# Altium integrated library TI_Logic_Specialty_Logic.IntLib: 2504 symbols (part 3 of 81)
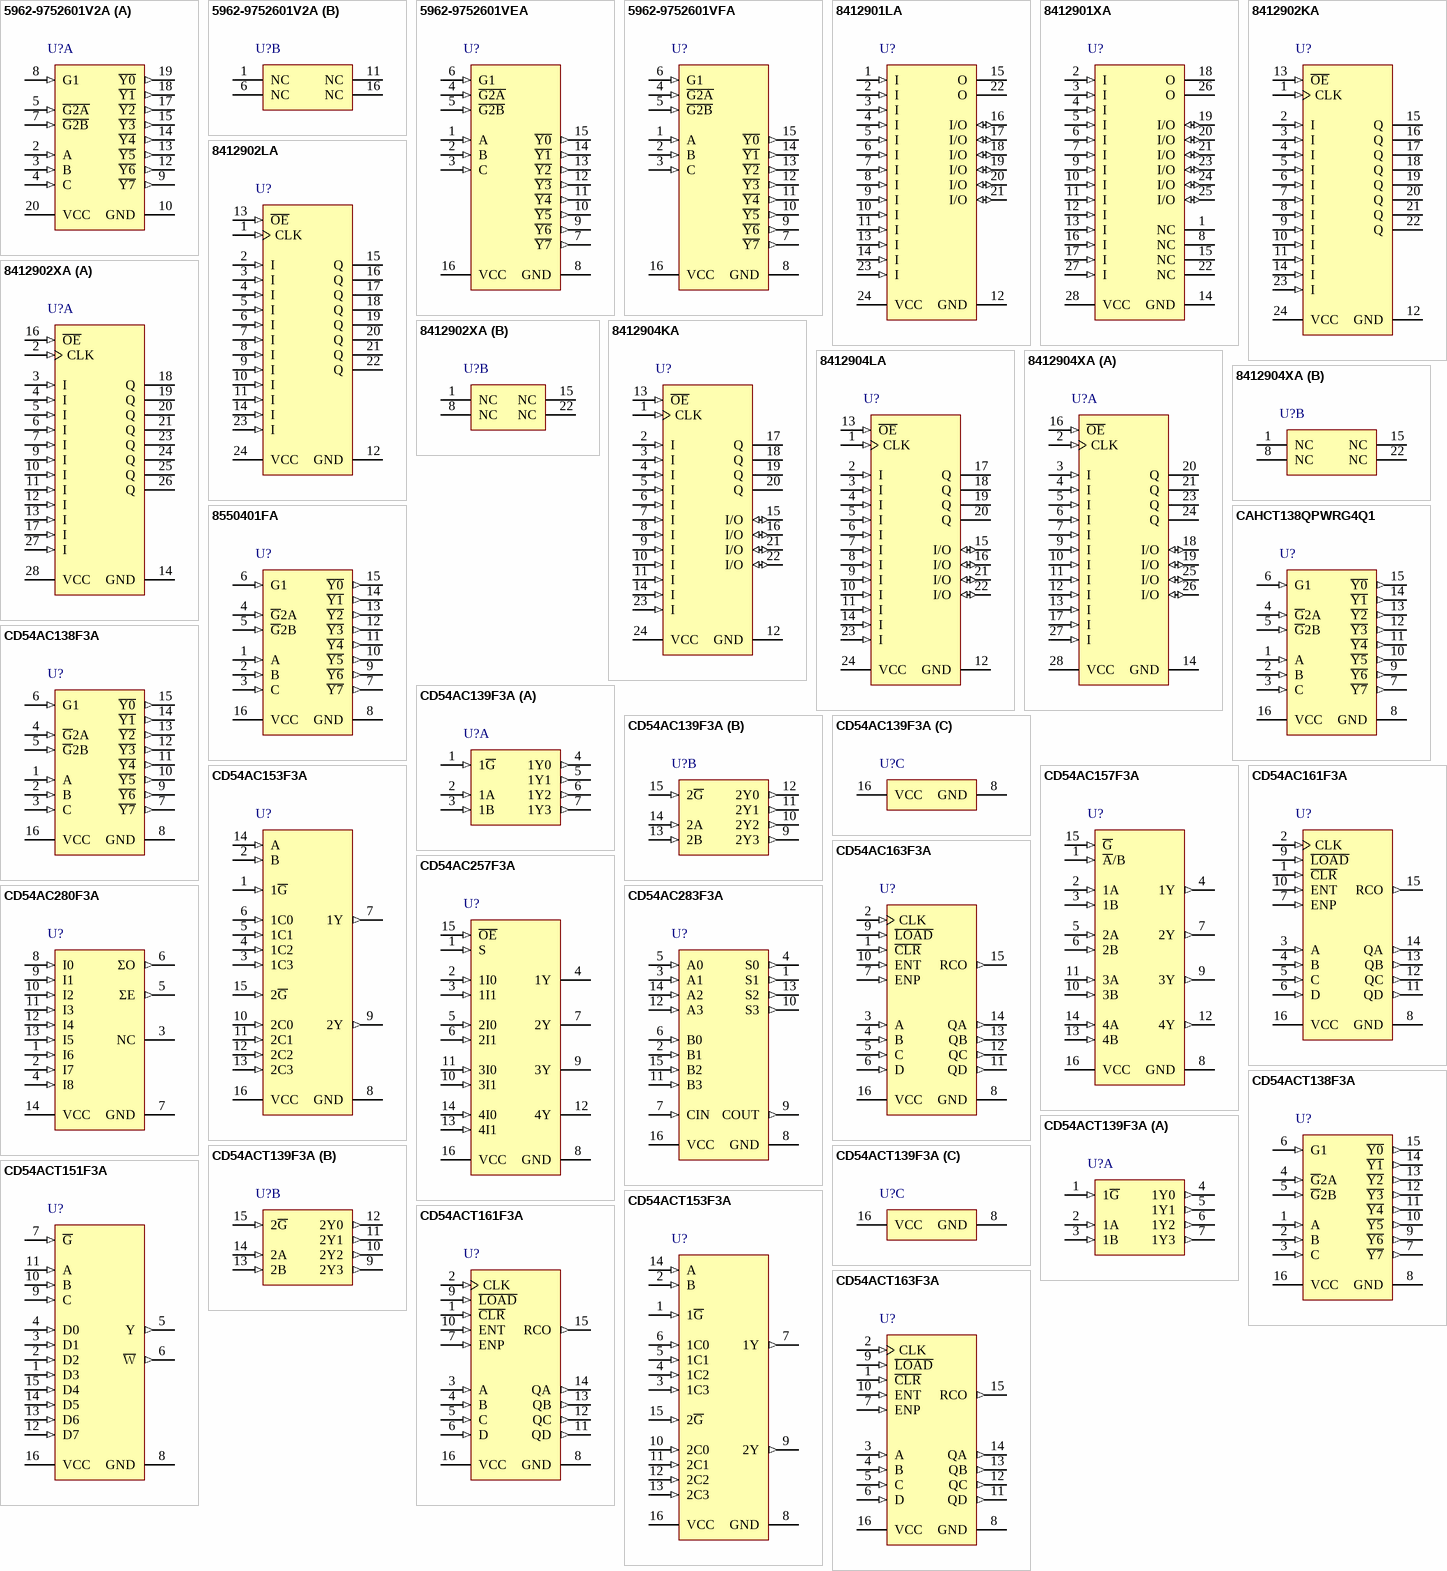
[diagram p106: symbols 5962-9752601V2A to CD54ACT163F3A]

## CD54AC153F3A
designator U?
Dual 4-Input Multiplexers, J0016A, TUBE; Generic Part Number: CD54AC153; Manufacturer: Texas Instruments; PartNumber: CD54AC153F3A; VCC(Min)(V): 1.5; VCC(Max)(V): 5.5; ICC @ Nom Voltage(Max)(mA): 0.08; F @ Nom Voltage(Max)(Mhz): 100; Rating: Military; Technology Family: AC; Voltage(Nom)(V): 1.5,3.3,5; Schmitt Trigger: No; Output Drive (IOL/IOH)(Max)(mA): 24/-24; tpd @ Nom Voltage(Max)(ns): 227,25.5,18.2; DatasheetVersion: SCHS334A; PackageReference: J0016A; Operating Temperature Range(C): -55 to 125; ComponentLink1Description: Manufacturer URL; ComponentLink1URL: http://www.ti.com/; ComponentLink2Description: Datasheet; ComponentLink2URL: http://www.ti.com/lit/ds/symlink/cd54ac153.pdf; ComponentLink3Description: Package Specification; ComponentLink3URL: http://www.ti.com/lit/ml/mcer002d/mcer002d.pdf
footprint J0016A (DIP, 16-Leads, Body 21.35x7.2mm, Pitch 2.54mm)
pins: 1 1~{G} (in), 2 B (in), 3 1C3 (in), 4 1C2 (in), 5 1C1 (in), 6 1C0 (in), 7 1Y (out), 8 GND (power), 9 2Y (out), 10 2C0 (in), 11 2C1 (in), 12 2C2 (in), 13 2C3 (in), 14 A (in), 15 2~{G} (in), 16 VCC (power)

## CD54AC157F3A
designator U?
Quad Non-Inverting 2-Input Multiplexers, J0016A, TUBE; Generic Part Number: CD54AC157; Manufacturer: Texas Instruments; PartNumber: CD54AC157F3A; VCC(Min)(V): 1.5; VCC(Max)(V): 5.5; ICC @ Nom Voltage(Max)(mA): 0.08; F @ Nom Voltage(Max)(Mhz): 100; Rating: Military; Technology Family: AC; Voltage(Nom)(V): 1.5,3.3,5; Schmitt Trigger: No; Output Drive (IOL/IOH)(Max)(mA): 24/-24; tpd @ Nom Voltage(Max)(ns): 97,10.8,7.7; DatasheetVersion: SCHS335; PackageReference: J0016A; Operating Temperature Range(C): -55 to 125; ComponentLink1Description: Manufacturer URL; ComponentLink1URL: http://www.ti.com/; ComponentLink2Description: Datasheet; ComponentLink2URL: http://www.ti.com/lit/ds/symlink/cd54ac157.pdf; ComponentLink3Description: Package Specification; ComponentLink3URL: http://www.ti.com/lit/ml/mcer002d/mcer002d.pdf
footprint J0016A (DIP, 16-Leads, Body 21.35x7.2mm, Pitch 2.54mm)
pins: 1 ~{A}/B (in), 2 1A (in), 3 1B (in), 4 1Y (out), 5 2A (in), 6 2B (in), 7 2Y (out), 8 GND (power), 9 3Y (out), 10 3B (in), 11 3A (in), 12 4Y (out), 13 4B (in), 14 4A (in), 15 ~{G} (in), 16 VCC (power)

## CD54AC161F3A
designator U?
Synchronous Presettable Binary Counters with Asynchronous Reset, J0016A, TUBE; Generic Part Number: CD54AC161; Manufacturer: Texas Instruments; PartNumber: CD54AC161F3A; VCC(Min)(V): 1.5; VCC(Max)(V): 5.5; Inputs: 4; ICC @ Nom Voltage(Max)(mA): 0.08; F @ Nom Voltage(Max)(Mhz): 100; Rating: Military; Technology Family: AC; Output Drive (IOL/IOH)(Max)(mA): 24/-24; tpd @ Nom Voltage(Max)(ns): 15; DatasheetVersion: SCHS239C; PackageReference: J0016A; Function: Counter; Bits(#): 4; Operating Temperature Range(C): -55 to 125; Type: Binary; ComponentLink1Description: Manufacturer URL; ComponentLink1URL: http://www.ti.com/; ComponentLink2Description: Datasheet; ComponentLink2URL: http://www.ti.com/lit/ds/symlink/cd54ac161.pdf; ComponentLink3Description: Package Specification; ComponentLink3URL: http://www.ti.com/lit/ml/mcer002d/mcer002d.pdf
footprint J0016A (DIP, 16-Leads, Body 21.35x7.2mm, Pitch 2.54mm)
pins: 1 ~{CLR} (in), 2 CLK (in), 3 A (in), 4 B (in), 5 C (in), 6 D (in), 7 ENP (in), 8 GND (power), 9 ~{LOAD} (in), 10 ENT (in), 11 QD (out), 12 QC (out), 13 QB (out), 14 QA (out), 15 RCO (out), 16 VCC (power)

## CD54AC163F3A
designator U?
Synchronous Presettable Binary Counters with Synchronous Reset, J0016A, TUBE; Generic Part Number: CD54AC163; Manufacturer: Texas Instruments; PartNumber: CD54AC163F3A; VCC(Min)(V): 1.5; VCC(Max)(V): 5.5; Inputs: 4; ICC @ Nom Voltage(Max)(mA): 0.08; F @ Nom Voltage(Max)(Mhz): 100; Rating: Military; Technology Family: AC; Output Drive (IOL/IOH)(Max)(mA): 24/-24; tpd @ Nom Voltage(Max)(ns): 15; DatasheetVersion: SCHS299B; PackageReference: J0016A; Function: Counter; Bits(#): 4; Operating Temperature Range(C): -55 to 125; Type: Binary; ComponentLink1Description: Manufacturer URL; ComponentLink1URL: http://www.ti.com/; ComponentLink2Description: Datasheet; ComponentLink2URL: http://www.ti.com/lit/ds/symlink/cd54ac163.pdf; ComponentLink3Description: Package Specification; ComponentLink3URL: http://www.ti.com/lit/ml/mcer002d/mcer002d.pdf
footprint J0016A (DIP, 16-Leads, Body 21.35x7.2mm, Pitch 2.54mm)
pins: 1 ~{CLR} (in), 2 CLK (in), 3 A (in), 4 B (in), 5 C (in), 6 D (in), 7 ENP (in), 8 GND (power), 9 ~{LOAD} (in), 10 ENT (in), 11 QD (out), 12 QC (out), 13 QB (out), 14 QA (out), 15 RCO (out), 16 VCC (power)

## CD54AC257F3A
designator U?
Quad Non-Inverting 2-Input Multiplexers with 3-State Outputs, J0016A, TUBE; Generic Part Number: CD54AC257; Manufacturer: Texas Instruments; PartNumber: CD54AC257F3A; VCC(Min)(V): 1.5; VCC(Max)(V): 5.5; ICC @ Nom Voltage(Max)(mA): 0.08; F @ Nom Voltage(Max)(Mhz): 100; Rating: Military; Technology Family: AC; Voltage(Nom)(V): 1.5,3.3,5; Schmitt Trigger: No; Output Drive (IOL/IOH)(Max)(mA): 24/-24; tpd @ Nom Voltage(Max)(ns): 106,11.8,8.5; DatasheetVersion: SCHS248A; PackageReference: J0016A; Operating Temperature Range(C): -55 to 125; ComponentLink1Description: Manufacturer URL; ComponentLink1URL: http://www.ti.com/; ComponentLink2Description: Datasheet; ComponentLink2URL: http://www.ti.com/lit/ds/symlink/cd54ac257.pdf; ComponentLink3Description: Package Specification; ComponentLink3URL: http://www.ti.com/lit/ml/mcer002d/mcer002d.pdf
footprint J0016A (DIP, 16-Leads, Body 21.35x7.2mm, Pitch 2.54mm)
pins: 1 S (in), 2 1I0 (in), 3 1I1 (in), 4 1Y (hiz), 5 2I0 (in), 6 2I1 (in), 7 2Y (hiz), 8 GND (power), 9 3Y (hiz), 10 3I1 (in), 11 3I0 (in), 12 4Y (hiz), 13 4I1 (in), 14 4I0 (in), 15 ~{OE} (in), 16 VCC (power)

## CD54AC280F3A
designator U?
9-Bit Odd/Even Parity Generator/Checker, J0014A, TUBE; Generic Part Number: CD54AC280; Manufacturer: Texas Instruments; PartNumber: CD54AC280F3A; Rating: Military; Technology Family: AC; DatasheetVersion: SCHS250A; PackageReference: J0014A; Operating Temperature Range(C): -55 to 125; ComponentLink1Description: Manufacturer URL; ComponentLink1URL: http://www.ti.com/; ComponentLink2Description: Datasheet; ComponentLink2URL: http://www.ti.com/lit/ds/symlink/cd54ac280.pdf; ComponentLink3Description: Package Specification; ComponentLink3URL: http://www.ti.com/lit/ml/mcer002d/mcer002d.pdf
footprint J0014A (DIP, 14-Leads, Body 19.95x7.2mm, Pitch 2.54mm)
pins: 1 I6 (in), 2 I7 (in), 3 NC, 4 I8 (in), 5 ΣE (out), 6 ΣO (out), 7 GND (power), 8 I0 (in), 9 I1 (in), 10 I2 (in), 11 I3 (in), 12 I4 (in), 13 I5 (in), 14 VCC (power)

## CD54AC283F3A
designator U?
4-Bit Binary Full Adder with Fast Carry, J0016A, TUBE; Generic Part Number: CD54AC283; Manufacturer: Texas Instruments; PartNumber: CD54AC283F3A; Rating: Military; Technology Family: AC; DatasheetVersion: SCHS251D; PackageReference: J0016A; Operating Temperature Range(C): -55 to 125; ComponentLink1Description: Manufacturer URL; ComponentLink1URL: http://www.ti.com/; ComponentLink2Description: Datasheet; ComponentLink2URL: http://www.ti.com/lit/ds/symlink/cd54ac283.pdf; ComponentLink3Description: Package Specification; ComponentLink3URL: http://www.ti.com/lit/ml/mcer002d/mcer002d.pdf
footprint J0016A (DIP, 16-Leads, Body 21.35x7.2mm, Pitch 2.54mm)
pins: 1 S1 (out), 2 B1 (in), 3 A1 (in), 4 S0 (out), 5 A0 (in), 6 B0 (in), 7 CIN (in), 8 GND (power), 9 COUT (out), 10 S3 (out), 11 B3 (in), 12 A3 (in), 13 S2 (out), 14 A2 (in), 15 B2 (in), 16 VCC (power)

## CD54ACT138F3A
designator U?
3-Line to 8-Line Inverting Decoders/Demultiplexers, J0016A, TUBE; Generic Part Number: CD54ACT138; Manufacturer: Texas Instruments; PartNumber: CD54ACT138F3A; Rating: Military; Technology Family: ACT; Schmitt Trigger: No; DatasheetVersion: SCHS329A; PackageReference: J0016A; Operating Temperature Range(C): -55 to 125; ComponentLink1Description: Manufacturer URL; ComponentLink1URL: http://www.ti.com/; ComponentLink2Description: Datasheet; ComponentLink2URL: http://www.ti.com/lit/ds/symlink/cd54act138.pdf; ComponentLink3Description: Package Specification; ComponentLink3URL: http://www.ti.com/lit/ml/mcer002d/mcer002d.pdf
footprint J0016A (DIP, 16-Leads, Body 21.35x7.2mm, Pitch 2.54mm)
pins: 1 A (in), 2 B (in), 3 C (in), 4 ~{G}2A (in), 5 ~{G}2B (in), 6 G1 (in), 7 ~{Y7} (out), 8 GND (power), 9 ~{Y6} (out), 10 ~{Y5} (out), 11 ~{Y4} (out), 12 ~{Y3} (out), 13 ~{Y2} (out), 14 ~{Y1} (out), 15 ~{Y0} (out), 16 VCC (power)

## CD54ACT139F3A
designator U?
Dual 2-to-4 Line Decoder/Demultiplexer, J0016A, TUBE; Generic Part Number: CD54ACT139; Manufacturer: Texas Instruments; PartNumber: CD54ACT139F3A; Rating: Military; Technology Family: ACT; Schmitt Trigger: No; DatasheetVersion: SCHS337; PackageReference: J0016A; Operating Temperature Range(C): -55 to 125; ComponentLink1Description: Manufacturer URL; ComponentLink1URL: http://www.ti.com/; ComponentLink2Description: Datasheet; ComponentLink2URL: http://www.ti.com/lit/ds/symlink/cd54act139.pdf; ComponentLink3Description: Package Specification; ComponentLink3URL: http://www.ti.com/lit/ml/mcer002d/mcer002d.pdf
footprint J0016A (DIP, 16-Leads, Body 21.35x7.2mm, Pitch 2.54mm)
part A pins: 1 1~{G} (in), 2 1A (in), 3 1B (in), 4 1Y0 (out), 5 1Y1 (out), 6 1Y2 (out), 7 1Y3 (out)
part B pins: 9 2Y3 (out), 10 2Y2 (out), 11 2Y1 (out), 12 2Y0 (out), 13 2B (in), 14 2A (in), 15 2~{G} (in)
part C pins: 8 GND (power), 16 VCC (power)

## CD54ACT151F3A
designator U?
8-Input Multiplexer, J0016A, TUBE; Generic Part Number: CD54ACT151; Manufacturer: Texas Instruments; PartNumber: CD54ACT151F3A; Rating: Military; Technology Family: ACT; Schmitt Trigger: No; DatasheetVersion: SCHS338; PackageReference: J0016A; Operating Temperature Range(C): -55 to 125; ComponentLink1Description: Manufacturer URL; ComponentLink1URL: http://www.ti.com/; ComponentLink2Description: Datasheet; ComponentLink2URL: http://www.ti.com/lit/ds/symlink/cd54act151.pdf; ComponentLink3Description: Package Specification; ComponentLink3URL: http://www.ti.com/lit/ml/mcer002d/mcer002d.pdf
footprint J0016A (DIP, 16-Leads, Body 21.35x7.2mm, Pitch 2.54mm)
pins: 1 D3 (in), 2 D2 (in), 3 D1 (in), 4 D0 (in), 5 Y (out), 6 ~{W} (out), 7 ~{G} (in), 8 GND (power), 9 C (in), 10 B (in), 11 A (in), 12 D7 (in), 13 D6 (in), 14 D5 (in), 15 D4 (in), 16 VCC (power)

## CD54ACT153F3A
designator U?
Dual 4-Input Multiplexers, J0016A, TUBE; Generic Part Number: CD54ACT153; Manufacturer: Texas Instruments; PartNumber: CD54ACT153F3A; Rating: Military; Technology Family: ACT; Schmitt Trigger: No; DatasheetVersion: SCHS339; PackageReference: J0016A; Operating Temperature Range(C): -55 to 125; ComponentLink1Description: Manufacturer URL; ComponentLink1URL: http://www.ti.com/; ComponentLink2Description: Datasheet; ComponentLink2URL: http://www.ti.com/lit/ds/symlink/cd54act153.pdf; ComponentLink3Description: Package Specification; ComponentLink3URL: http://www.ti.com/lit/ml/mcer002d/mcer002d.pdf
footprint J0016A (DIP, 16-Leads, Body 21.35x7.2mm, Pitch 2.54mm)
pins: 1 1~{G} (in), 2 B (in), 3 1C3 (in), 4 1C2 (in), 5 1C1 (in), 6 1C0 (in), 7 1Y (out), 8 GND (power), 9 2Y (out), 10 2C0 (in), 11 2C1 (in), 12 2C2 (in), 13 2C3 (in), 14 A (in), 15 2~{G} (in), 16 VCC (power)

## CD54ACT161F3A
designator U?
Synchronous Presettable Binary Counters with Asynchronous Reset, J0016A, TUBE; Generic Part Number: CD54ACT161; Manufacturer: Texas Instruments; PartNumber: CD54ACT161F3A; VCC(Min)(V): 4.5; VCC(Max)(V): 5.5; Inputs: 4; ICC @ Nom Voltage(Max)(mA): 0.08; F @ Nom Voltage(Max)(Mhz): 90; Rating: Military; Technology Family: ACT; Output Drive (IOL/IOH)(Max)(mA): 24/-24; tpd @ Nom Voltage(Max)(ns): 15; DatasheetVersion: SCHS298B; PackageReference: J0016A; Function: Counter; Bits(#): 4; Operating Temperature Range(C): -55 to 125; Type: Binary; ComponentLink1Description: Manufacturer URL; ComponentLink1URL: http://www.ti.com/; ComponentLink2Description: Datasheet; ComponentLink2URL: http://www.ti.com/lit/ds/symlink/cd54act161.pdf; ComponentLink3Description: Package Specification; ComponentLink3URL: http://www.ti.com/lit/ml/mcer002d/mcer002d.pdf
footprint J0016A (DIP, 16-Leads, Body 21.35x7.2mm, Pitch 2.54mm)
pins: 1 ~{CLR} (in), 2 CLK (in), 3 A (in), 4 B (in), 5 C (in), 6 D (in), 7 ENP (in), 8 GND (power), 9 ~{LOAD} (in), 10 ENT (in), 11 QD (out), 12 QC (out), 13 QB (out), 14 QA (out), 15 RCO (out), 16 VCC (power)

## CD54ACT163F3A
designator U?
Synchronous Presettable Binary Counters with Synchronous Reset, J0016A, TUBE; Generic Part Number: CD54ACT163; Manufacturer: Texas Instruments; PartNumber: CD54ACT163F3A; VCC(Min)(V): 4.5; VCC(Max)(V): 5.5; Inputs: 4; ICC @ Nom Voltage(Max)(mA): 0.08; F @ Nom Voltage(Max)(Mhz): 90; Rating: Military; Technology Family: ACT; Output Drive (IOL/IOH)(Max)(mA): 24/-24; tpd @ Nom Voltage(Max)(ns): 15; DatasheetVersion: SCHS300B; PackageReference: J0016A; Function: Counter; Bits(#): 4; Operating Temperature Range(C): -55 to 125; Type: Binary; ComponentLink1Description: Manufacturer URL; ComponentLink1URL: http://www.ti.com/; ComponentLink2Description: Datasheet; ComponentLink2URL: http://www.ti.com/lit/ds/symlink/cd54act163.pdf; ComponentLink3Description: Package Specification; ComponentLink3URL: http://www.ti.com/lit/ml/mcer002d/mcer002d.pdf
footprint J0016A (DIP, 16-Leads, Body 21.35x7.2mm, Pitch 2.54mm)
pins: 1 ~{CLR} (in), 2 CLK (in), 3 A (in), 4 B (in), 5 C (in), 6 D (in), 7 ENP (in), 8 GND (power), 9 ~{LOAD} (in), 10 ENT (in), 11 QD (out), 12 QC (out), 13 QB (out), 14 QA (out), 15 RCO (out), 16 VCC (power)

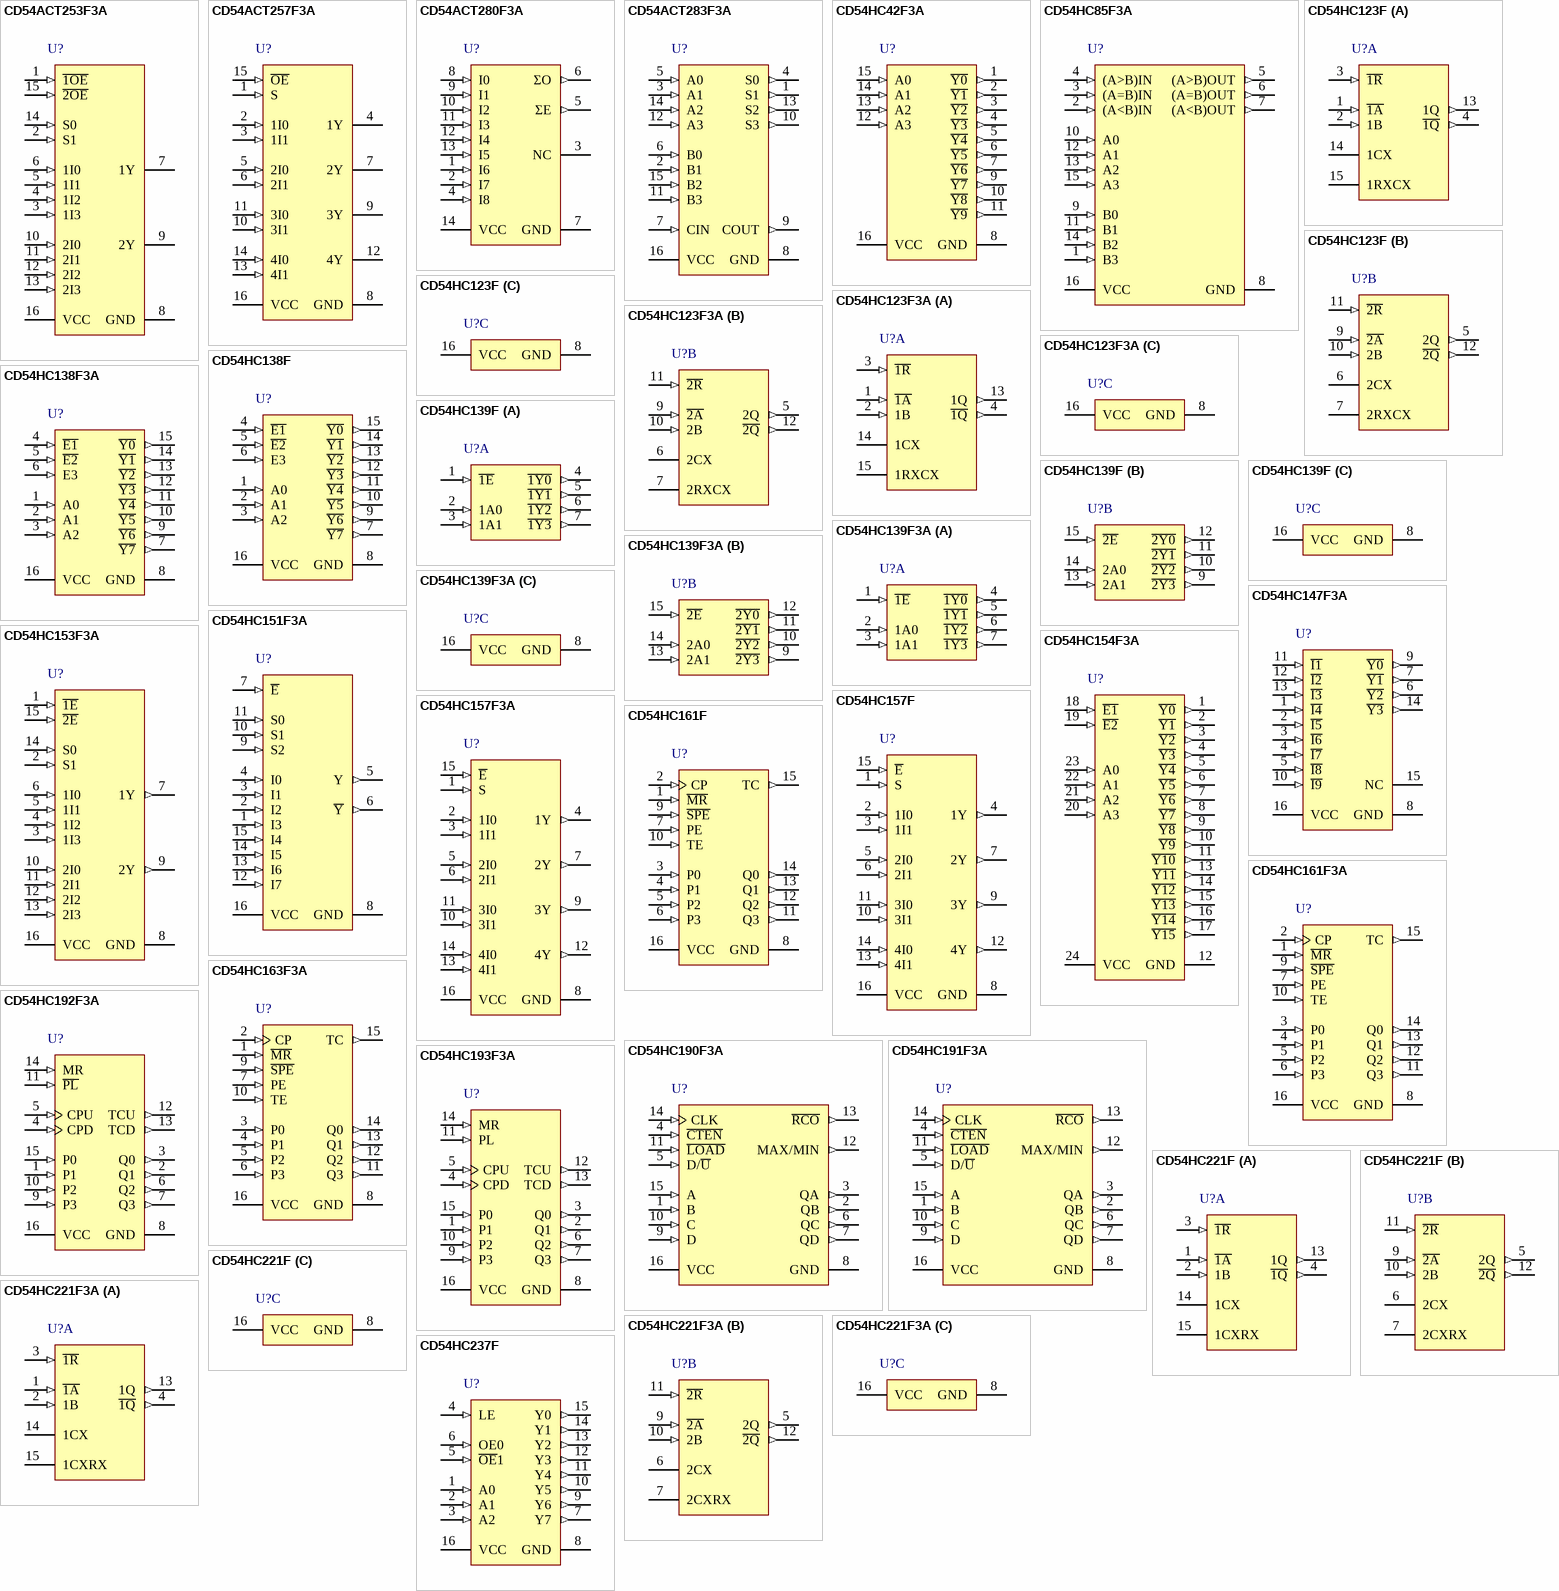
[diagram p3: symbols CD54ACT253F3A to CD54HC237F]

## CD54ACT253F3A
designator U?
Dual 4-Input Multiplexers with 3-State Outputs, J0016A, TUBE; Generic Part Number: CD54ACT253; Manufacturer: Texas Instruments; PartNumber: CD54ACT253F3A; Rating: Military; Technology Family: ACT; Schmitt Trigger: No; DatasheetVersion: SCHS247A; PackageReference: J0016A; Operating Temperature Range(C): -55 to 125; ComponentLink1Description: Manufacturer URL; ComponentLink1URL: http://www.ti.com/; ComponentLink2Description: Datasheet; ComponentLink2URL: http://www.ti.com/lit/ds/symlink/cd54act253.pdf; ComponentLink3Description: Package Specification; ComponentLink3URL: http://www.ti.com/lit/ml/mcer002d/mcer002d.pdf
footprint J0016A (DIP, 16-Leads, Body 21.35x7.2mm, Pitch 2.54mm)
pins: 1 ~{1OE} (in), 2 S1 (in), 3 1I3 (in), 4 1I2 (in), 5 1I1 (in), 6 1I0 (in), 7 1Y (hiz), 8 GND (power), 9 2Y (hiz), 10 2I0 (in), 11 2I1 (in), 12 2I2 (in), 13 2I3 (in), 14 S0 (in), 15 ~{2OE} (in), 16 VCC (power)

## CD54ACT257F3A
designator U?
Quad Non-Inverting 2-Input Multiplexers with 3-State Outputs, J0016A, TUBE; Generic Part Number: CD54ACT257; Manufacturer: Texas Instruments; PartNumber: CD54ACT257F3A; Rating: Military; Technology Family: ACT; Schmitt Trigger: No; DatasheetVersion: SCHS248A; PackageReference: J0016A; Operating Temperature Range(C): -55 to 125; ComponentLink1Description: Manufacturer URL; ComponentLink1URL: http://www.ti.com/; ComponentLink2Description: Datasheet; ComponentLink2URL: http://www.ti.com/lit/ds/symlink/cd54act257.pdf; ComponentLink3Description: Package Specification; ComponentLink3URL: http://www.ti.com/lit/ml/mcer002d/mcer002d.pdf
footprint J0016A (DIP, 16-Leads, Body 21.35x7.2mm, Pitch 2.54mm)
pins: 1 S (in), 2 1I0 (in), 3 1I1 (in), 4 1Y (hiz), 5 2I0 (in), 6 2I1 (in), 7 2Y (hiz), 8 GND (power), 9 3Y (hiz), 10 3I1 (in), 11 3I0 (in), 12 4Y (hiz), 13 4I1 (in), 14 4I0 (in), 15 ~{OE} (in), 16 VCC (power)

## CD54ACT280F3A
designator U?
9-Bit Odd/Even Parity Generator/Checker, J0014A, TUBE; Generic Part Number: CD54ACT280; Manufacturer: Texas Instruments; PartNumber: CD54ACT280F3A; Rating: Military; Technology Family: ACT; DatasheetVersion: SCHS250A; PackageReference: J0014A; Operating Temperature Range(C): -55 to 125; ComponentLink1Description: Manufacturer URL; ComponentLink1URL: http://www.ti.com/; ComponentLink2Description: Datasheet; ComponentLink2URL: http://www.ti.com/lit/ds/symlink/cd54act280.pdf; ComponentLink3Description: Package Specification; ComponentLink3URL: http://www.ti.com/lit/ml/mcer002d/mcer002d.pdf
footprint J0014A (DIP, 14-Leads, Body 19.95x7.2mm, Pitch 2.54mm)
pins: 1 I6 (in), 2 I7 (in), 3 NC, 4 I8 (in), 5 ΣE (out), 6 ΣO (out), 7 GND (power), 8 I0 (in), 9 I1 (in), 10 I2 (in), 11 I3 (in), 12 I4 (in), 13 I5 (in), 14 VCC (power)

## CD54ACT283F3A
designator U?
4-Bit Binary Full Adder with Fast Carry, J0016A, TUBE; Generic Part Number: CD54ACT283; Manufacturer: Texas Instruments; PartNumber: CD54ACT283F3A; Rating: Military; Technology Family: ACT; DatasheetVersion: SCHS251D; PackageReference: J0016A; Operating Temperature Range(C): -55 to 125; ComponentLink1Description: Manufacturer URL; ComponentLink1URL: http://www.ti.com/; ComponentLink2Description: Datasheet; ComponentLink2URL: http://www.ti.com/lit/ds/symlink/cd54act283.pdf; ComponentLink3Description: Package Specification; ComponentLink3URL: http://www.ti.com/lit/ml/mcer002d/mcer002d.pdf
footprint J0016A (DIP, 16-Leads, Body 21.35x7.2mm, Pitch 2.54mm)
pins: 1 S1 (out), 2 B1 (in), 3 A1 (in), 4 S0 (out), 5 A0 (in), 6 B0 (in), 7 CIN (in), 8 GND (power), 9 COUT (out), 10 S3 (out), 11 B3 (in), 12 A3 (in), 13 S2 (out), 14 A2 (in), 15 B2 (in), 16 VCC (power)

## CD54HC42F3A
designator U?
High Speed CMOS Logic BCD to Decimal Decoder (1 of 10), J0016A, TUBE; Generic Part Number: CD54HC42; Manufacturer: Texas Instruments; PartNumber: CD54HC42F3A; Rating: Military; Technology Family: HC; Schmitt Trigger: No; DatasheetVersion: SCHS133C; PackageReference: J0016A; Operating Temperature Range(C): -55 to 125; ComponentLink1Description: Manufacturer URL; ComponentLink1URL: http://www.ti.com/; ComponentLink2Description: Datasheet; ComponentLink2URL: http://www.ti.com/lit/ds/symlink/cd54hc42.pdf; ComponentLink3Description: Package Specification; ComponentLink3URL: http://www.ti.com/lit/ml/mcer002d/mcer002d.pdf
footprint J0016A (DIP, 16-Leads, Body 21.35x7.2mm, Pitch 2.54mm)
pins: 1 ~{Y0} (out), 2 ~{Y1} (out), 3 ~{Y2} (out), 4 ~{Y3} (out), 5 ~{Y4} (out), 6 ~{Y5} (out), 7 ~{Y6} (out), 8 GND (power), 9 ~{Y7} (out), 10 ~{Y8} (out), 11 ~{Y9} (out), 12 A3 (in), 13 A2 (in), 14 A1 (in), 15 A0 (in), 16 VCC (power)

## CD54HC85F3A
designator U?
4-Bit Magnitude Comparator, J0016A, TUBE; Generic Part Number: CD54HC85; Manufacturer: Texas Instruments; PartNumber: CD54HC85F3A; VCC(Min)(V): 2; VCC(Max)(V): 6; Output Type: CMOS; ICC @ Nom Voltage(Max)(mA): 0.08; Bits(#): 4; Rating: Military; Technology Family: HC; Output Drive (IOL/IOH)(Max)(mA): 5.2/-5.2; tpd @ Nom Voltage(Max)(ns): 42; DatasheetVersion: SCHS136E; PackageReference: J0016A; Input Type: CMOS; Operating Temperature Range(C): -55 to 125; ComponentLink1Description: Manufacturer URL; ComponentLink1URL: http://www.ti.com/; ComponentLink2Description: Datasheet; ComponentLink2URL: http://www.ti.com/lit/ds/symlink/cd54hc85.pdf
footprint J0016A (DIP, 16-Leads, Body 21.35x7.2mm, Pitch 2.54mm)
pins: 1 B3 (in), 2 (A<B)IN (in), 3 (A=B)IN (in), 4 (A>B)IN (in), 5 (A>B)OUT (out), 6 (A=B)OUT (out), 7 (A<B)OUT (out), 8 GND (power), 9 B0 (in), 10 A0 (in), 11 B1 (in), 12 A1 (in), 13 A2 (in), 14 B2 (in), 15 A3 (in), 16 VCC (power)

## CD54HC123F
designator U?
High Speed CMOS Logic Dual Retriggerable Monostable Multivibrators with Resets, J0016A, TUBE; Generic Part Number: CD54HC123; Manufacturer: Texas Instruments; PartNumber: CD54HC123F; VCC(Min)(V): 2; VCC(Max)(V): 6; ICC @ Nom Voltage(Max)(mA): 0.08; Rating: Military; Technology Family: HC; Output Drive (IOL/IOH)(Max)(mA): 5.2/-5.2; tpd @ Nom Voltage(Max)(ns): 68; DatasheetVersion: SCHS142F; PackageReference: J0016A; Output Type: CMOS; Input Type: CMOS; Bits(#): 2; Operating Temperature Range(C): -55 to 125; ComponentLink1Description: Manufacturer URL; ComponentLink1URL: http://www.ti.com/; ComponentLink2Description: Datasheet; ComponentLink2URL: http://www.ti.com/lit/ds/symlink/cd54hc123.pdf; ComponentLink3Description: Package Specification; ComponentLink3URL: http://www.ti.com/lit/ml/mcer002d/mcer002d.pdf
footprint J0016A (DIP, 16-Leads, Body 21.35x7.2mm, Pitch 2.54mm)
part A pins: 1 ~{1A} (in), 2 1B (in), 3 ~{1R} (in), 4 ~{1Q} (out), 13 1Q (out), 14 1CX, 15 1RXCX
part B pins: 5 2Q (out), 6 2CX, 7 2RXCX, 9 ~{2A} (in), 10 2B (in), 11 ~{2R} (in), 12 ~{2Q} (out)
part C pins: 8 GND (power), 16 VCC (power)

## CD54HC123F3A
designator U?
High Speed CMOS Logic Dual Retriggerable Monostable Multivibrators with Resets, J0016A, TUBE; Generic Part Number: CD54HC123; Manufacturer: Texas Instruments; PartNumber: CD54HC123F3A; VCC(Min)(V): 2; VCC(Max)(V): 6; ICC @ Nom Voltage(Max)(mA): 0.08; Rating: Military; Technology Family: HC; Output Drive (IOL/IOH)(Max)(mA): 5.2/-5.2; tpd @ Nom Voltage(Max)(ns): 68; DatasheetVersion: SCHS142F; PackageReference: J0016A; Output Type: CMOS; Input Type: CMOS; Bits(#): 2; Operating Temperature Range(C): -55 to 125; ComponentLink1Description: Manufacturer URL; ComponentLink1URL: http://www.ti.com/; ComponentLink2Description: Datasheet; ComponentLink2URL: http://www.ti.com/lit/ds/symlink/cd54hc123.pdf; ComponentLink3Description: Package Specification; ComponentLink3URL: http://www.ti.com/lit/ml/mcer002d/mcer002d.pdf
footprint J0016A (DIP, 16-Leads, Body 21.35x7.2mm, Pitch 2.54mm)
part A pins: 1 ~{1A} (in), 2 1B (in), 3 ~{1R} (in), 4 ~{1Q} (out), 13 1Q (out), 14 1CX, 15 1RXCX
part B pins: 5 2Q (out), 6 2CX, 7 2RXCX, 9 ~{2A} (in), 10 2B (in), 11 ~{2R} (in), 12 ~{2Q} (out)
part C pins: 8 GND (power), 16 VCC (power)

## CD54HC138F
designator U?
High Speed CMOS Logic Inverting and Non-Inverting 3-to-8 Line Decoder Demultiplexer, J0016A, TUBE; Generic Part Number: CD54HC138; Manufacturer: Texas Instruments; PartNumber: CD54HC138F; Rating: Military; Technology Family: HC; Schmitt Trigger: No; DatasheetVersion: SCHS147I; PackageReference: J0016A; Operating Temperature Range(C): -55 to 125; ComponentLink1Description: Manufacturer URL; ComponentLink1URL: http://www.ti.com/; ComponentLink2Description: Datasheet; ComponentLink2URL: http://www.ti.com/lit/ds/symlink/cd54hc138.pdf; ComponentLink3Description: Package Specification; ComponentLink3URL: http://www.ti.com/lit/ml/mcer002d/mcer002d.pdf
footprint J0016A (DIP, 16-Leads, Body 21.35x7.2mm, Pitch 2.54mm)
pins: 1 A0 (in), 2 A1 (in), 3 A2 (in), 4 ~{E1} (in), 5 ~{E2} (in), 6 E3 (in), 7 ~{Y7} (out), 8 GND (power), 9 ~{Y6} (out), 10 ~{Y5} (out), 11 ~{Y4} (out), 12 ~{Y3} (out), 13 ~{Y2} (out), 14 ~{Y1} (out), 15 ~{Y0} (out), 16 VCC (power)

## CD54HC138F3A
designator U?
High Speed CMOS Logic Inverting and Non-Inverting 3-to-8 Line Decoder Demultiplexer, J0016A, TUBE; Generic Part Number: CD54HC138; Manufacturer: Texas Instruments; PartNumber: CD54HC138F3A; Rating: Military; Technology Family: HC; Schmitt Trigger: No; DatasheetVersion: SCHS147I; PackageReference: J0016A; Operating Temperature Range(C): -55 to 125; ComponentLink1Description: Manufacturer URL; ComponentLink1URL: http://www.ti.com/; ComponentLink2Description: Datasheet; ComponentLink2URL: http://www.ti.com/lit/ds/symlink/cd54hc138.pdf; ComponentLink3Description: Package Specification; ComponentLink3URL: http://www.ti.com/lit/ml/mcer002d/mcer002d.pdf
footprint J0016A (DIP, 16-Leads, Body 21.35x7.2mm, Pitch 2.54mm)
pins: 1 A0 (in), 2 A1 (in), 3 A2 (in), 4 ~{E1} (in), 5 ~{E2} (in), 6 E3 (in), 7 ~{Y7} (out), 8 GND (power), 9 ~{Y6} (out), 10 ~{Y5} (out), 11 ~{Y4} (out), 12 ~{Y3} (out), 13 ~{Y2} (out), 14 ~{Y1} (out), 15 ~{Y0} (out), 16 VCC (power)

## CD54HC139F
designator U?
High Speed CMOS Logic Dual 2-to-4 Line Decoder/Demultiplexers, J0016A, TUBE; Generic Part Number: CD54HC139; Manufacturer: Texas Instruments; PartNumber: CD54HC139F; Rating: Military; Technology Family: HC; Schmitt Trigger: No; DatasheetVersion: SCHS148D; PackageReference: J0016A; Operating Temperature Range(C): -55 to 125; ComponentLink1Description: Manufacturer URL; ComponentLink1URL: http://www.ti.com/; ComponentLink2Description: Datasheet; ComponentLink2URL: http://www.ti.com/lit/ds/symlink/cd54hc139.pdf; ComponentLink3Description: Package Specification; ComponentLink3URL: http://www.ti.com/lit/ml/mcer002d/mcer002d.pdf
footprint J0016A (DIP, 16-Leads, Body 21.35x7.2mm, Pitch 2.54mm)
part A pins: 1 ~{1E} (in), 2 1A0 (in), 3 1A1 (in), 4 ~{1Y0} (out), 5 ~{1Y1} (out), 6 ~{1Y2} (out), 7 ~{1Y3} (out)
part B pins: 9 ~{2Y3} (out), 10 ~{2Y2} (out), 11 ~{2Y1} (out), 12 ~{2Y0} (out), 13 2A1 (in), 14 2A0 (in), 15 ~{2E} (in)
part C pins: 8 GND (power), 16 VCC (power)

## CD54HC139F3A
designator U?
High Speed CMOS Logic Dual 2-to-4 Line Decoder/Demultiplexers, J0016A, TUBE; Generic Part Number: CD54HC139; Manufacturer: Texas Instruments; PartNumber: CD54HC139F3A; Rating: Military; Technology Family: HC; Schmitt Trigger: No; DatasheetVersion: SCHS148D; PackageReference: J0016A; Operating Temperature Range(C): -55 to 125; ComponentLink1Description: Manufacturer URL; ComponentLink1URL: http://www.ti.com/; ComponentLink2Description: Datasheet; ComponentLink2URL: http://www.ti.com/lit/ds/symlink/cd54hc139.pdf; ComponentLink3Description: Package Specification; ComponentLink3URL: http://www.ti.com/lit/ml/mcer002d/mcer002d.pdf
footprint J0016A (DIP, 16-Leads, Body 21.35x7.2mm, Pitch 2.54mm)
part A pins: 1 ~{1E} (in), 2 1A0 (in), 3 1A1 (in), 4 ~{1Y0} (out), 5 ~{1Y1} (out), 6 ~{1Y2} (out), 7 ~{1Y3} (out)
part B pins: 9 ~{2Y3} (out), 10 ~{2Y2} (out), 11 ~{2Y1} (out), 12 ~{2Y0} (out), 13 2A1 (in), 14 2A0 (in), 15 ~{2E} (in)
part C pins: 8 GND (power), 16 VCC (power)

## CD54HC147F3A
designator U?
High Speed CMOS Logic 10-to-4 Line Priority Encoder, J0016A, TUBE; Generic Part Number: CD54HC147; Manufacturer: Texas Instruments; PartNumber: CD54HC147F3A; Rating: Military; Technology Family: HC; Schmitt Trigger: No; DatasheetVersion: SCHS149F; PackageReference: J0016A; Operating Temperature Range(C): -55 to 125; ComponentLink1Description: Manufacturer URL; ComponentLink1URL: http://www.ti.com/; ComponentLink2Description: Datasheet; ComponentLink2URL: http://www.ti.com/lit/ds/symlink/cd54hc147.pdf; ComponentLink3Description: Package Specification; ComponentLink3URL: http://www.ti.com/lit/ml/mcer002d/mcer002d.pdf
footprint J0016A (DIP, 16-Leads, Body 21.35x7.2mm, Pitch 2.54mm)
pins: 1 ~{I4} (in), 2 ~{I5} (in), 3 ~{I6} (in), 4 ~{I7} (in), 5 ~{I8} (in), 6 ~{Y2} (out), 7 ~{Y1} (out), 8 GND (power), 9 ~{Y0} (out), 10 ~{I9} (in), 11 ~{I1} (in), 12 ~{I2} (in), 13 ~{I3} (in), 14 ~{Y3} (out), 15 NC, 16 VCC (power)

## CD54HC151F3A
designator U?
CMOS 8-Input NOR/OR Gate, J0016A, TUBE; Generic Part Number: CD54HC151; Manufacturer: Texas Instruments; PartNumber: CD54HC151F3A; Rating: Military; Technology Family: HC; Schmitt Trigger: No; DatasheetVersion: SCHS150C; PackageReference: J0016A; Operating Temperature Range(C): -55 to 125; ComponentLink1Description: Manufacturer URL; ComponentLink1URL: http://www.ti.com/; ComponentLink2Description: Datasheet; ComponentLink2URL: http://www.ti.com/lit/ds/symlink/cd54hc151.pdf; ComponentLink3Description: Package Specification; ComponentLink3URL: http://www.ti.com/lit/ml/mcer002d/mcer002d.pdf
footprint J0016A (DIP, 16-Leads, Body 21.35x7.2mm, Pitch 2.54mm)
pins: 1 I3 (in), 2 I2 (in), 3 I1 (in), 4 I0 (in), 5 Y (out), 6 ~{Y} (out), 7 ~{E} (in), 8 GND (power), 9 S2 (in), 10 S1 (in), 11 S0 (in), 12 I7 (in), 13 I6 (in), 14 I5 (in), 15 I4 (in), 16 VCC (power)

## CD54HC153F3A
designator U?
High Speed CMOS Logic Dual 4-Input Multiplexers, J0016A, TUBE; Generic Part Number: CD54HC153; Manufacturer: Texas Instruments; PartNumber: CD54HC153F3A; Rating: Military; Technology Family: HC; Schmitt Trigger: No; DatasheetVersion: SCHS151C; PackageReference: J0016A; Operating Temperature Range(C): -55 to 125; ComponentLink1Description: Manufacturer URL; ComponentLink1URL: http://www.ti.com/; ComponentLink2Description: Datasheet; ComponentLink2URL: http://www.ti.com/lit/ds/symlink/cd54hc153.pdf; ComponentLink3Description: Package Specification; ComponentLink3URL: http://www.ti.com/lit/ml/mcer002d/mcer002d.pdf
footprint J0016A (DIP, 16-Leads, Body 21.35x7.2mm, Pitch 2.54mm)
pins: 1 ~{1E} (in), 2 S1 (in), 3 1I3 (in), 4 1I2 (in), 5 1I1 (in), 6 1I0 (in), 7 1Y (out), 8 GND (power), 9 2Y (out), 10 2I0 (in), 11 2I1 (in), 12 2I2 (in), 13 2I3 (in), 14 S0 (in), 15 ~{2E} (in), 16 VCC (power)

## CD54HC154F3A
designator U?
High Speed CMOS Logic 4-to-16 Line Decoder/Demultiplexer, J0024A, TUBE; Generic Part Number: CD54HC154; Manufacturer: Texas Instruments; PartNumber: CD54HC154F3A; Rating: Military; Technology Family: HC; Schmitt Trigger: No; DatasheetVersion: SCHS152D; PackageReference: J0024A; Operating Temperature Range(C): -55 to 125; ComponentLink1Description: Manufacturer URL; ComponentLink1URL: http://www.ti.com/; ComponentLink2Description: Datasheet; ComponentLink2URL: http://www.ti.com/lit/ds/symlink/cd54hc154.pdf; ComponentLink3Description: Package Specification; ComponentLink3URL: http://www.ti.com/lit/ml/mcer002d/mcer002d.pdf
footprint J0024A (DIP, 24-Leads, Body 32.15x14.85mm, Pitch 2.54mm)
pins: 1 ~{Y0} (out), 2 ~{Y1} (out), 3 ~{Y2} (out), 4 ~{Y3} (out), 5 ~{Y4} (out), 6 ~{Y5} (out), 7 ~{Y6} (out), 8 ~{Y7} (out), 9 ~{Y8} (out), 10 ~{Y9} (out), 11 ~{Y10} (out), 12 GND (power), 13 ~{Y11} (out), 14 ~{Y12} (out), 15 ~{Y13} (out), 16 ~{Y14} (out), 17 ~{Y15} (out), 18 ~{E1} (in), 19 ~{E2} (in), 20 A3 (in), 21 A2 (in), 22 A1 (in), 23 A0 (in), 24 VCC (power)

## CD54HC157F
designator U?
High Speed CMOS Logic Quad 2-Input Multiplexers, J0016A, TUBE; Generic Part Number: CD54HC157; Manufacturer: Texas Instruments; PartNumber: CD54HC157F; Rating: Military; Technology Family: HC; Schmitt Trigger: No; DatasheetVersion: SCHS153C; PackageReference: J0016A; Operating Temperature Range(C): -55 to 125; ComponentLink1Description: Manufacturer URL; ComponentLink1URL: http://www.ti.com/; ComponentLink2Description: Datasheet; ComponentLink2URL: http://www.ti.com/lit/ds/symlink/cd54hc157.pdf; ComponentLink3Description: Package Specification; ComponentLink3URL: http://www.ti.com/lit/ml/mcer002d/mcer002d.pdf
footprint J0016A (DIP, 16-Leads, Body 21.35x7.2mm, Pitch 2.54mm)
pins: 1 S (in), 2 1I0 (in), 3 1I1 (in), 4 1Y (out), 5 2I0 (in), 6 2I1 (in), 7 2Y (out), 8 GND (power), 9 3Y (out), 10 3I1 (in), 11 3I0 (in), 12 4Y (out), 13 4I1 (in), 14 4I0 (in), 15 ~{E} (in), 16 VCC (power)

## CD54HC157F3A
designator U?
High Speed CMOS Logic Quad 2-Input Multiplexers, J0016A, TUBE; Generic Part Number: CD54HC157; Manufacturer: Texas Instruments; PartNumber: CD54HC157F3A; Rating: Military; Technology Family: HC; Schmitt Trigger: No; DatasheetVersion: SCHS153C; PackageReference: J0016A; Operating Temperature Range(C): -55 to 125; ComponentLink1Description: Manufacturer URL; ComponentLink1URL: http://www.ti.com/; ComponentLink2Description: Datasheet; ComponentLink2URL: http://www.ti.com/lit/ds/symlink/cd54hc157.pdf; ComponentLink3Description: Package Specification; ComponentLink3URL: http://www.ti.com/lit/ml/mcer002d/mcer002d.pdf
footprint J0016A (DIP, 16-Leads, Body 21.35x7.2mm, Pitch 2.54mm)
pins: 1 S (in), 2 1I0 (in), 3 1I1 (in), 4 1Y (out), 5 2I0 (in), 6 2I1 (in), 7 2Y (out), 8 GND (power), 9 3Y (out), 10 3I1 (in), 11 3I0 (in), 12 4Y (out), 13 4I1 (in), 14 4I0 (in), 15 ~{E} (in), 16 VCC (power)

## CD54HC161F
designator U?
High Speed CMOS Logic 4-Bit Binary Counter with Asynchronous Reset, J0016A, TUBE; Generic Part Number: CD54HC161; Manufacturer: Texas Instruments; PartNumber: CD54HC161F; VCC(Min)(V): 2; VCC(Max)(V): 6; Inputs: 4; ICC @ Nom Voltage(Max)(mA): 0.08; F @ Nom Voltage(Max)(Mhz): 28; Rating: Military; Technology Family: HC; Output Drive (IOL/IOH)(Max)(mA): 5.2/-5.2; tpd @ Nom Voltage(Max)(ns): 39; DatasheetVersion: SCHS154D; PackageReference: J0016A; Function: Counter; Bits(#): 4; Operating Temperature Range(C): -55 to 125; Type: Binary; ComponentLink1Description: Manufacturer URL; ComponentLink1URL: http://www.ti.com/; ComponentLink2Description: Datasheet; ComponentLink2URL: http://www.ti.com/lit/ds/symlink/cd54hc161.pdf; ComponentLink3Description: Package Specification; ComponentLink3URL: http://www.ti.com/lit/ml/mcer002d/mcer002d.pdf
footprint J0016A (DIP, 16-Leads, Body 21.35x7.2mm, Pitch 2.54mm)
pins: 1 ~{MR} (in), 2 CP (in), 3 P0 (in), 4 P1 (in), 5 P2 (in), 6 P3 (in), 7 PE (in), 8 GND (power), 9 ~{SPE} (in), 10 TE (in), 11 Q3 (out), 12 Q2 (out), 13 Q1 (out), 14 Q0 (out), 15 TC (out), 16 VCC (power)

## CD54HC161F3A
designator U?
High Speed CMOS Logic 4-Bit Binary Counter with Asynchronous Reset, J0016A, TUBE; Generic Part Number: CD54HC161; Manufacturer: Texas Instruments; PartNumber: CD54HC161F3A; VCC(Min)(V): 2; VCC(Max)(V): 6; Inputs: 4; ICC @ Nom Voltage(Max)(mA): 0.08; F @ Nom Voltage(Max)(Mhz): 28; Rating: Military; Technology Family: HC; Output Drive (IOL/IOH)(Max)(mA): 5.2/-5.2; tpd @ Nom Voltage(Max)(ns): 39; DatasheetVersion: SCHS154D; PackageReference: J0016A; Function: Counter; Bits(#): 4; Operating Temperature Range(C): -55 to 125; Type: Binary; ComponentLink1Description: Manufacturer URL; ComponentLink1URL: http://www.ti.com/; ComponentLink2Description: Datasheet; ComponentLink2URL: http://www.ti.com/lit/ds/symlink/cd54hc161.pdf; ComponentLink3Description: Package Specification; ComponentLink3URL: http://www.ti.com/lit/ml/mcer002d/mcer002d.pdf
footprint J0016A (DIP, 16-Leads, Body 21.35x7.2mm, Pitch 2.54mm)
pins: 1 ~{MR} (in), 2 CP (in), 3 P0 (in), 4 P1 (in), 5 P2 (in), 6 P3 (in), 7 PE (in), 8 GND (power), 9 ~{SPE} (in), 10 TE (in), 11 Q3 (out), 12 Q2 (out), 13 Q1 (out), 14 Q0 (out), 15 TC (out), 16 VCC (power)

## CD54HC163F3A
designator U?
High Speed CMOS Logic 4-Bit Binary Counter with Synchronous Reset, J0016A, TUBE; Generic Part Number: CD54HC163; Manufacturer: Texas Instruments; PartNumber: CD54HC163F3A; VCC(Min)(V): 2; VCC(Max)(V): 6; Inputs: 4; ICC @ Nom Voltage(Max)(mA): 0.08; F @ Nom Voltage(Max)(Mhz): 28; Rating: Military; Technology Family: HC; Output Drive (IOL/IOH)(Max)(mA): 5.2/-5.2; tpd @ Nom Voltage(Max)(ns): 39; DatasheetVersion: SCHS154D; PackageReference: J0016A; Function: Counter; Bits(#): 4; Operating Temperature Range(C): -55 to 125; Type: Binary; ComponentLink1Description: Manufacturer URL; ComponentLink1URL: http://www.ti.com/; ComponentLink2Description: Datasheet; ComponentLink2URL: http://www.ti.com/lit/ds/symlink/cd54hc163.pdf; ComponentLink3Description: Package Specification; ComponentLink3URL: http://www.ti.com/lit/ml/mcer002d/mcer002d.pdf
footprint J0016A (DIP, 16-Leads, Body 21.35x7.2mm, Pitch 2.54mm)
pins: 1 ~{MR} (in), 2 CP (in), 3 P0 (in), 4 P1 (in), 5 P2 (in), 6 P3 (in), 7 PE (in), 8 GND (power), 9 ~{SPE} (in), 10 TE (in), 11 Q3 (out), 12 Q2 (out), 13 Q1 (out), 14 Q0 (out), 15 TC (out), 16 VCC (power)

## CD54HC190F3A
designator U?
High Speed CMOS Logic Presettable Synchronous 4-Bit BCD Decade Up/Down Counter, J0016A, TUBE; Generic Part Number: CD54HC190; Manufacturer: Texas Instruments; PartNumber: CD54HC190F3A; VCC(Min)(V): 2; VCC(Max)(V): 6; Inputs: 4; ICC @ Nom Voltage(Max)(mA): 0.08; F @ Nom Voltage(Max)(Mhz): 28; Rating: Military; Technology Family: HC; Output Drive (IOL/IOH)(Max)(mA): 5.2/-5.2; tpd @ Nom Voltage(Max)(ns): 37; DatasheetVersion: SCHS275E; PackageReference: J0016A; Function: Counter; Bits(#): 4; Operating Temperature Range(C): -55 to 125; Type: Decade; ComponentLink1Description: Manufacturer URL; ComponentLink1URL: http://www.ti.com/; ComponentLink2Description: Datasheet; ComponentLink2URL: http://www.ti.com/lit/ds/symlink/cd54hc190.pdf; ComponentLink3Description: Package Specification; ComponentLink3URL: http://www.ti.com/lit/ml/mcer002d/mcer002d.pdf
footprint J0016A (DIP, 16-Leads, Body 21.35x7.2mm, Pitch 2.54mm)
pins: 1 B (in), 2 QB (out), 3 QA (out), 4 ~{CTEN} (in), 5 D/~{U} (in), 6 QC (out), 7 QD (out), 8 GND (power), 9 D (in), 10 C (in), 11 ~{LOAD} (in), 12 MAX/MIN (out), 13 ~{RCO} (out), 14 CLK (in), 15 A (in), 16 VCC (power)

## CD54HC191F3A
designator U?
High Speed CMOS Logic Presettable Synchronous 4-Bit Binary Up/Down Counter, J0016A, TUBE; Generic Part Number: CD54HC191; Manufacturer: Texas Instruments; PartNumber: CD54HC191F3A; VCC(Min)(V): 2; VCC(Max)(V): 6; Inputs: 4; ICC @ Nom Voltage(Max)(mA): 0.08; F @ Nom Voltage(Max)(Mhz): 28; Rating: Military; Technology Family: HC; Output Drive (IOL/IOH)(Max)(mA): 5.2/-5.2; tpd @ Nom Voltage(Max)(ns): 37; DatasheetVersion: SCHS275E; PackageReference: J0016A; Function: Counter; Bits(#): 4; Operating Temperature Range(C): -55 to 125; Type: Binary; ComponentLink1Description: Manufacturer URL; ComponentLink1URL: http://www.ti.com/; ComponentLink2Description: Datasheet; ComponentLink2URL: http://www.ti.com/lit/ds/symlink/cd54hc191.pdf; ComponentLink3Description: Package Specification; ComponentLink3URL: http://www.ti.com/lit/ml/mcer002d/mcer002d.pdf
footprint J0016A (DIP, 16-Leads, Body 21.35x7.2mm, Pitch 2.54mm)
pins: 1 B (in), 2 QB (out), 3 QA (out), 4 ~{CTEN} (in), 5 D/~{U} (in), 6 QC (out), 7 QD (out), 8 GND (power), 9 D (in), 10 C (in), 11 ~{LOAD} (in), 12 MAX/MIN (out), 13 ~{RCO} (out), 14 CLK (in), 15 A (in), 16 VCC (power)

## CD54HC192F3A
designator U?
High Speed CMOS Logic Presettable Synchronous 4-Bit BCD Decade Up/Down Counters, J0016A, TUBE; Generic Part Number: CD54HC192; Manufacturer: Texas Instruments; PartNumber: CD54HC192F3A; VCC(Min)(V): 2; VCC(Max)(V): 6; Inputs: 1; ICC @ Nom Voltage(Max)(mA): 0.08; Bits(#): 4; F @ Nom Voltage(Max)(Mhz): 28; Rating: Military; Technology Family: HC; Output Drive (IOL/IOH)(Max)(mA): 5.2/-5.2; tpd @ Nom Voltage(Max)(ns): 46; DatasheetVersion: SCHS163F; PackageReference: J0016A; Function: Counter; Operating Temperature Range(C): -55 to 125; Type: Decade; ComponentLink1Description: Manufacturer URL; ComponentLink1URL: http://www.ti.com/; ComponentLink2Description: Datasheet; ComponentLink2URL: http://www.ti.com/lit/ds/symlink/cd54hc192.pdf; ComponentLink3Description: Package Specification; ComponentLink3URL: http://www.ti.com/lit/ml/mcer002d/mcer002d.pdf
footprint J0016A (DIP, 16-Leads, Body 21.35x7.2mm, Pitch 2.54mm)
pins: 1 P1 (in), 2 Q1 (out), 3 Q0 (out), 4 CPD (in), 5 CPU (in), 6 Q2 (out), 7 Q3 (out), 8 GND (power), 9 P3 (in), 10 P2 (in), 11 ~{PL} (in), 12 TCU (out), 13 TCD (out), 14 MR (in), 15 P0 (in), 16 VCC (power)

## CD54HC193F3A
designator U?
High Speed CMOS Logic Presettable Synchronous 4-Bit Binary Up/Down Counters, J0016A, TUBE; Generic Part Number: CD54HC193; Manufacturer: Texas Instruments; PartNumber: CD54HC193F3A; VCC(Min)(V): 2; VCC(Max)(V): 6; Inputs: 1; ICC @ Nom Voltage(Max)(mA): 0.08; Bits(#): 4; F @ Nom Voltage(Max)(Mhz): 28; Rating: Military; Technology Family: HC; Output Drive (IOL/IOH)(Max)(mA): 5.2/-5.2; tpd @ Nom Voltage(Max)(ns): 46; DatasheetVersion: SCHS163F; PackageReference: J0016A; Function: Counter; Operating Temperature Range(C): -55 to 125; Type: Binary; ComponentLink1Description: Manufacturer URL; ComponentLink1URL: http://www.ti.com/; ComponentLink2Description: Datasheet; ComponentLink2URL: http://www.ti.com/lit/ds/symlink/cd54hc193.pdf; ComponentLink3Description: Package Specification; ComponentLink3URL: http://www.ti.com/lit/ml/mcer002d/mcer002d.pdf
footprint J0016A (DIP, 16-Leads, Body 21.35x7.2mm, Pitch 2.54mm)
pins: 1 P1 (in), 2 Q1 (out), 3 Q0 (out), 4 CPD (in), 5 CPU (in), 6 Q2 (out), 7 Q3 (out), 8 GND (power), 9 P3 (in), 10 P2 (in), 11 PL (in), 12 TCU (out), 13 TCD (out), 14 MR (in), 15 P0 (in), 16 VCC (power)

## CD54HC221F
designator U?
High Speec CMOS Logic Dual Monostable Multivibrator with Reset, J0016A, TUBE; Generic Part Number: CD54HC221; Manufacturer: Texas Instruments; PartNumber: CD54HC221F; VCC(Min)(V): 2; VCC(Max)(V): 6; ICC @ Nom Voltage(Max)(mA): 0.08; Rating: Military; Technology Family: HC; Output Drive (IOL/IOH)(Max)(mA): 5.2/-5.2; tpd @ Nom Voltage(Max)(ns): 45; DatasheetVersion: SCHS166F; PackageReference: J0016A; Output Type: CMOS; Input Type: CMOS; Bits(#): 2; Operating Temperature Range(C): -55 to 125; ComponentLink1Description: Manufacturer URL; ComponentLink1URL: http://www.ti.com/; ComponentLink2Description: Datasheet; ComponentLink2URL: http://www.ti.com/lit/ds/symlink/cd54hc221.pdf; ComponentLink3Description: Package Specification; ComponentLink3URL: http://www.ti.com/lit/ml/mcer002d/mcer002d.pdf
footprint J0016A (DIP, 16-Leads, Body 21.35x7.2mm, Pitch 2.54mm)
part A pins: 1 ~{1A} (in), 2 1B (in), 3 ~{1R} (in), 4 ~{1Q} (out), 13 1Q (out), 14 1CX, 15 1CXRX
part B pins: 5 2Q (out), 6 2CX, 7 2CXRX, 9 ~{2A} (in), 10 2B (in), 11 ~{2R} (in), 12 ~{2Q} (out)
part C pins: 8 GND (power), 16 VCC (power)

## CD54HC221F3A
designator U?
High Speec CMOS Logic Dual Monostable Multivibrator with Reset, J0016A, TUBE; Generic Part Number: CD54HC221; Manufacturer: Texas Instruments; PartNumber: CD54HC221F3A; VCC(Min)(V): 2; VCC(Max)(V): 6; ICC @ Nom Voltage(Max)(mA): 0.08; Rating: Military; Technology Family: HC; Output Drive (IOL/IOH)(Max)(mA): 5.2/-5.2; tpd @ Nom Voltage(Max)(ns): 45; DatasheetVersion: SCHS166F; PackageReference: J0016A; Output Type: CMOS; Input Type: CMOS; Bits(#): 2; Operating Temperature Range(C): -55 to 125; ComponentLink1Description: Manufacturer URL; ComponentLink1URL: http://www.ti.com/; ComponentLink2Description: Datasheet; ComponentLink2URL: http://www.ti.com/lit/ds/symlink/cd54hc221.pdf; ComponentLink3Description: Package Specification; ComponentLink3URL: http://www.ti.com/lit/ml/mcer002d/mcer002d.pdf
footprint J0016A (DIP, 16-Leads, Body 21.35x7.2mm, Pitch 2.54mm)
part A pins: 1 ~{1A} (in), 2 1B (in), 3 ~{1R} (in), 4 ~{1Q} (out), 13 1Q (out), 14 1CX, 15 1CXRX
part B pins: 5 2Q (out), 6 2CX, 7 2CXRX, 9 ~{2A} (in), 10 2B (in), 11 ~{2R} (in), 12 ~{2Q} (out)
part C pins: 8 GND (power), 16 VCC (power)

## CD54HC237F
designator U?
High Speed CMOS Logic 3-to-8 Line Decoder Demutiplexer with Address Latches, J0016A, TUBE; Generic Part Number: CD54HC237; Manufacturer: Texas Instruments; PartNumber: CD54HC237F; Rating: Military; Technology Family: HC; Schmitt Trigger: No; DatasheetVersion: SCHS146F; PackageReference: J0016A; Operating Temperature Range(C): -55 to 125; ComponentLink1Description: Manufacturer URL; ComponentLink1URL: http://www.ti.com/; ComponentLink2Description: Datasheet; ComponentLink2URL: http://www.ti.com/lit/ds/symlink/cd54hc237.pdf; ComponentLink3Description: Package Specification; ComponentLink3URL: http://www.ti.com/lit/ml/mcer002d/mcer002d.pdf
footprint J0016A (DIP, 16-Leads, Body 21.35x7.2mm, Pitch 2.54mm)
pins: 1 A0 (in), 2 A1 (in), 3 A2 (in), 4 LE (in), 5 ~{OE}1 (in), 6 OE0 (in), 7 Y7 (out), 8 GND (power), 9 Y6 (out), 10 Y5 (out), 11 Y4 (out), 12 Y3 (out), 13 Y2 (out), 14 Y1 (out), 15 Y0 (out), 16 VCC (power)

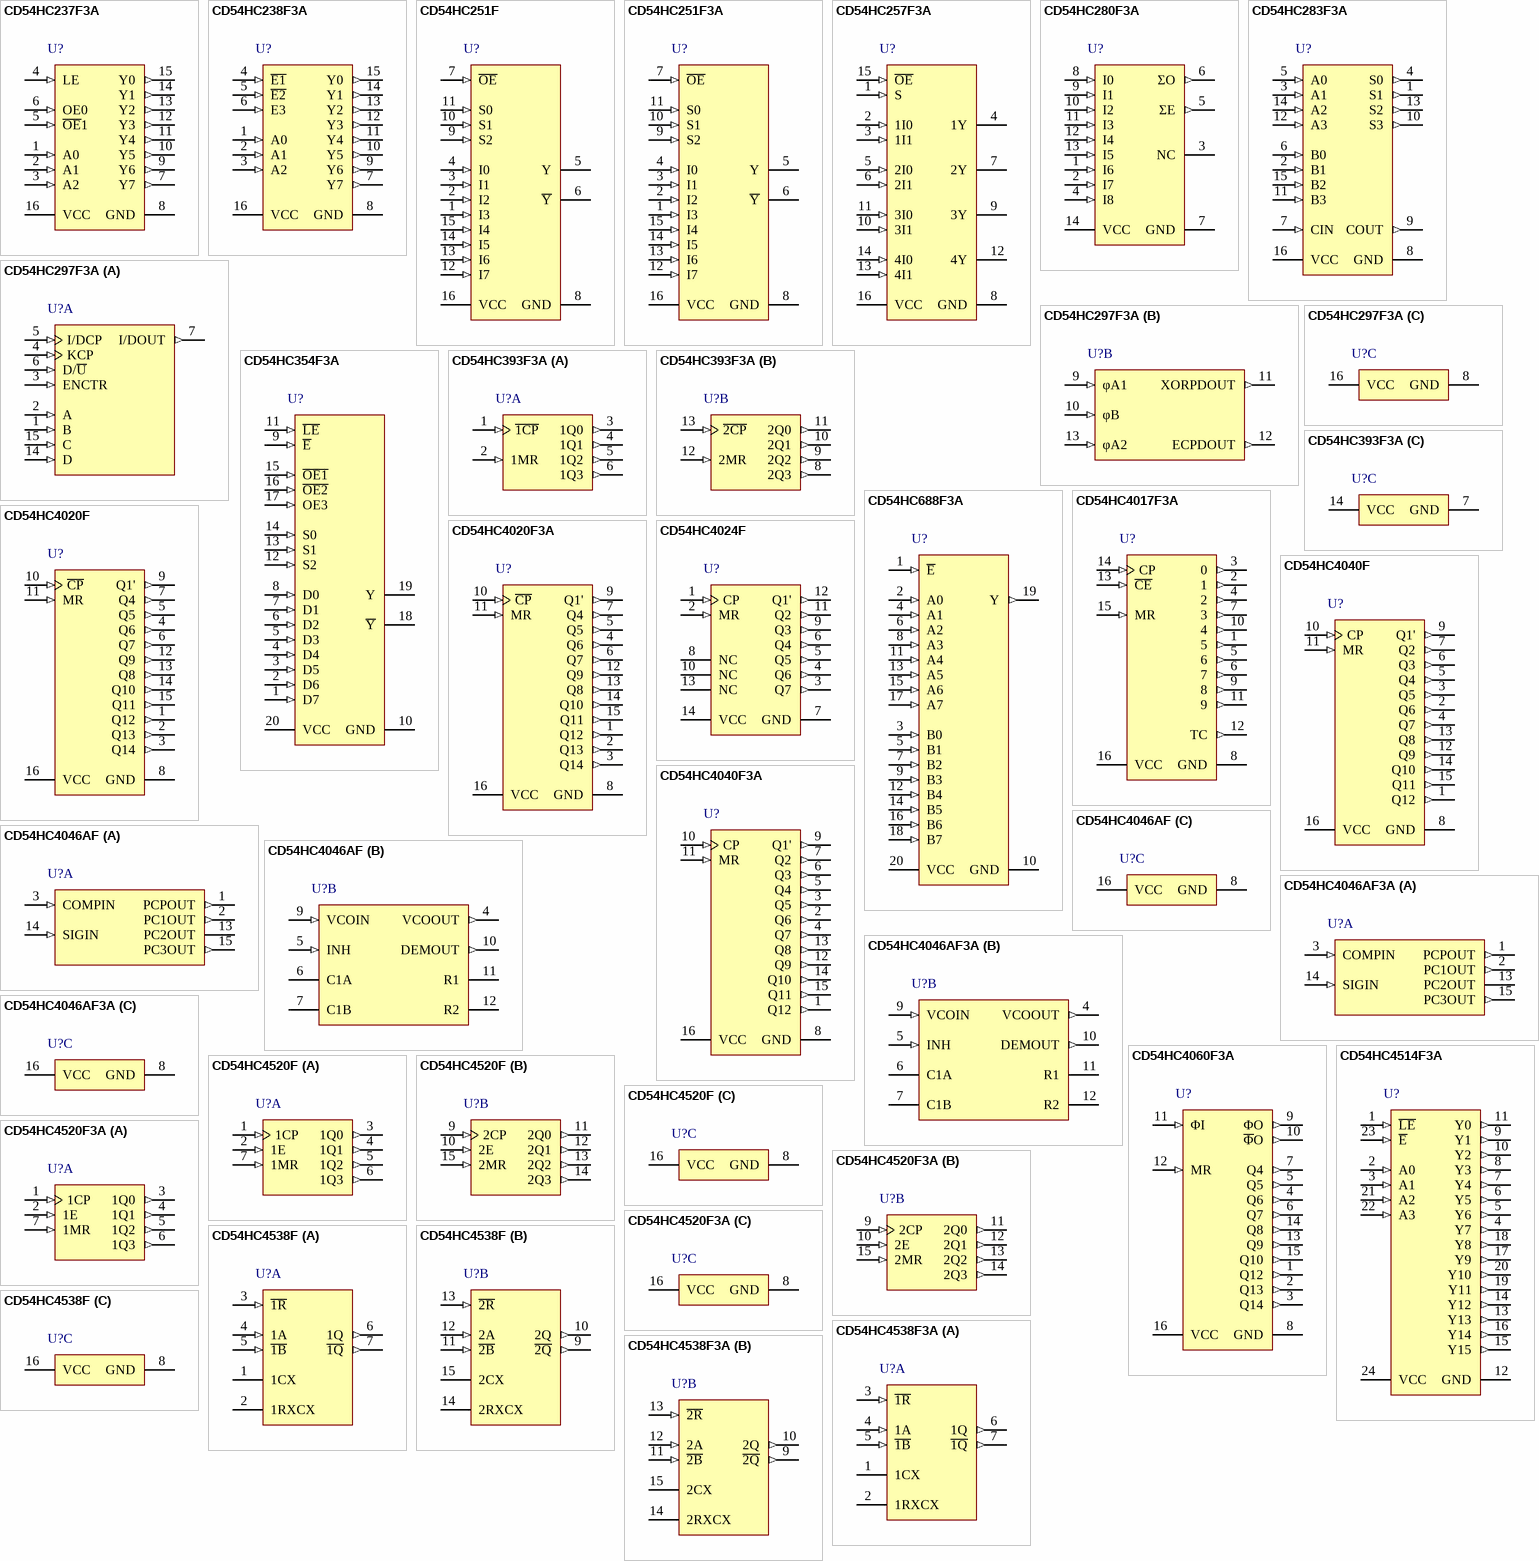
[diagram p4: symbols CD54HC237F3A to CD54HC4538F3A]

## CD54HC237F3A
designator U?
High Speed CMOS Logic 3-to-8 Line Decoder Demutiplexer with Address Latches, J0016A, TUBE; Generic Part Number: CD54HC237; Manufacturer: Texas Instruments; PartNumber: CD54HC237F3A; Rating: Military; Technology Family: HC; Schmitt Trigger: No; DatasheetVersion: SCHS146F; PackageReference: J0016A; Operating Temperature Range(C): -55 to 125; ComponentLink1Description: Manufacturer URL; ComponentLink1URL: http://www.ti.com/; ComponentLink2Description: Datasheet; ComponentLink2URL: http://www.ti.com/lit/ds/symlink/cd54hc237.pdf; ComponentLink3Description: Package Specification; ComponentLink3URL: http://www.ti.com/lit/ml/mcer002d/mcer002d.pdf
footprint J0016A (DIP, 16-Leads, Body 21.35x7.2mm, Pitch 2.54mm)
pins: 1 A0 (in), 2 A1 (in), 3 A2 (in), 4 LE (in), 5 ~{OE}1 (in), 6 OE0 (in), 7 Y7 (out), 8 GND (power), 9 Y6 (out), 10 Y5 (out), 11 Y4 (out), 12 Y3 (out), 13 Y2 (out), 14 Y1 (out), 15 Y0 (out), 16 VCC (power)

## CD54HC238F3A
designator U?
High Speed CMOS Logic 3-to-8 Line Decoder Demultiplexer Inverting and Non-Inverting, J0016A, TUBE; Generic Part Number: CD54HC238; Manufacturer: Texas Instruments; PartNumber: CD54HC238F3A; Rating: Military; Technology Family: HC; Schmitt Trigger: No; DatasheetVersion: SCHS147I; PackageReference: J0016A; Operating Temperature Range(C): -55 to 125; ComponentLink1Description: Manufacturer URL; ComponentLink1URL: http://www.ti.com/; ComponentLink2Description: Datasheet; ComponentLink2URL: http://www.ti.com/lit/ds/symlink/cd54hc238.pdf; ComponentLink3Description: Package Specification; ComponentLink3URL: http://www.ti.com/lit/ml/mcer002d/mcer002d.pdf
footprint J0016A (DIP, 16-Leads, Body 21.35x7.2mm, Pitch 2.54mm)
pins: 1 A0 (in), 2 A1 (in), 3 A2 (in), 4 ~{E1} (in), 5 ~{E2} (in), 6 E3 (in), 7 Y7 (out), 8 GND (power), 9 Y6 (out), 10 Y5 (out), 11 Y4 (out), 12 Y3 (out), 13 Y2 (out), 14 Y1 (out), 15 Y0 (out), 16 VCC (power)

## CD54HC251F
designator U?
High Speed CMOS Logic 8-Input Multiplexer with 3-State Outputs, J0016A, TUBE; Generic Part Number: CD54HC251; Manufacturer: Texas Instruments; PartNumber: CD54HC251F; Rating: Military; Technology Family: HC; Schmitt Trigger: No; DatasheetVersion: SCHS169C; PackageReference: J0016A; Operating Temperature Range(C): -55 to 125; ComponentLink1Description: Manufacturer URL; ComponentLink1URL: http://www.ti.com/; ComponentLink2Description: Datasheet; ComponentLink2URL: http://www.ti.com/lit/ds/symlink/cd54hc251.pdf; ComponentLink3Description: Package Specification; ComponentLink3URL: http://www.ti.com/lit/ml/mcer002d/mcer002d.pdf
footprint J0016A (DIP, 16-Leads, Body 21.35x7.2mm, Pitch 2.54mm)
pins: 1 I3 (in), 2 I2 (in), 3 I1 (in), 4 I0 (in), 5 Y (hiz), 6 ~{Y} (hiz), 7 ~{OE} (in), 8 GND (power), 9 S2 (in), 10 S1 (in), 11 S0 (in), 12 I7 (in), 13 I6 (in), 14 I5 (in), 15 I4 (in), 16 VCC (power)

## CD54HC251F3A
designator U?
High Speed CMOS Logic 8-Input Multiplexer with 3-State Outputs, J0016A, TUBE; Generic Part Number: CD54HC251; Manufacturer: Texas Instruments; PartNumber: CD54HC251F3A; Rating: Military; Technology Family: HC; Schmitt Trigger: No; DatasheetVersion: SCHS169C; PackageReference: J0016A; Operating Temperature Range(C): -55 to 125; ComponentLink1Description: Manufacturer URL; ComponentLink1URL: http://www.ti.com/; ComponentLink2Description: Datasheet; ComponentLink2URL: http://www.ti.com/lit/ds/symlink/cd54hc251.pdf; ComponentLink3Description: Package Specification; ComponentLink3URL: http://www.ti.com/lit/ml/mcer002d/mcer002d.pdf
footprint J0016A (DIP, 16-Leads, Body 21.35x7.2mm, Pitch 2.54mm)
pins: 1 I3 (in), 2 I2 (in), 3 I1 (in), 4 I0 (in), 5 Y (hiz), 6 ~{Y} (hiz), 7 ~{OE} (in), 8 GND (power), 9 S2 (in), 10 S1 (in), 11 S0 (in), 12 I7 (in), 13 I6 (in), 14 I5 (in), 15 I4 (in), 16 VCC (power)

## CD54HC257F3A
designator U?
High Speed CMOS Logic Non-Inverting Quad 2-Input Multiplexer with 3-State Outputs, J0016A, TUBE; Generic Part Number: CD54HC257; Manufacturer: Texas Instruments; PartNumber: CD54HC257F3A; Rating: Military; Technology Family: HC; Schmitt Trigger: No; DatasheetVersion: SCHS171D; PackageReference: J0016A; Operating Temperature Range(C): -55 to 125; ComponentLink1Description: Manufacturer URL; ComponentLink1URL: http://www.ti.com/; ComponentLink2Description: Datasheet; ComponentLink2URL: http://www.ti.com/lit/ds/symlink/cd54hc257.pdf; ComponentLink3Description: Package Specification; ComponentLink3URL: http://www.ti.com/lit/ml/mcer002d/mcer002d.pdf
footprint J0016A (DIP, 16-Leads, Body 21.35x7.2mm, Pitch 2.54mm)
pins: 1 S (in), 2 1I0 (in), 3 1I1 (in), 4 1Y (hiz), 5 2I0 (in), 6 2I1 (in), 7 2Y (hiz), 8 GND (power), 9 3Y (hiz), 10 3I1 (in), 11 3I0 (in), 12 4Y (hiz), 13 4I1 (in), 14 4I0 (in), 15 ~{OE} (in), 16 VCC (power)

## CD54HC280F3A
designator U?
High Speed CMOS Logic 9-Bit Odd/Even Parity Generator/Checker, J0014A, TUBE; Generic Part Number: CD54HC280; Manufacturer: Texas Instruments; PartNumber: CD54HC280F3A; VCC(Min)(V): 2; VCC(Max)(V): 6; Inputs: 9; ICC @ Nom Voltage(Max)(mA): 0.08; F @ Nom Voltage(Max)(Mhz): 28; Rating: Military; Technology Family: HC; Output Drive (IOL/IOH)(Max)(mA): 5.2/-5.2; tpd @ Nom Voltage(Max)(ns): 43; DatasheetVersion: SCHS175D; PackageReference: J0014A; Function: Parity; Bits(#): 2; Operating Temperature Range(C): -55 to 125; Type: Other; ComponentLink1Description: Manufacturer URL; ComponentLink1URL: http://www.ti.com/; ComponentLink2Description: Datasheet; ComponentLink2URL: http://www.ti.com/lit/ds/symlink/cd54hc280.pdf; ComponentLink3Description: Package Specification; ComponentLink3URL: http://www.ti.com/lit/ml/mcer002d/mcer002d.pdf
footprint J0014A (DIP, 14-Leads, Body 19.95x7.2mm, Pitch 2.54mm)
pins: 1 I6 (in), 2 I7 (in), 3 NC, 4 I8 (in), 5 ΣE (out), 6 ΣO (out), 7 GND (power), 8 I0 (in), 9 I1 (in), 10 I2 (in), 11 I3 (in), 12 I4 (in), 13 I5 (in), 14 VCC (power)

## CD54HC283F3A
designator U?
High Speed CMOS Logic 4-Bit Binary Full Adder with Fast Carry, J0016A, TUBE; Generic Part Number: CD54HC283; Manufacturer: Texas Instruments; PartNumber: CD54HC283F3A; VCC(Min)(V): 2; VCC(Max)(V): 6; Inputs: 9; Function: Arithmetic; ICC @ Nom Voltage(Max)(mA): 0.08; Bits(#): 4; F @ Nom Voltage(Max)(Mhz): 28; Rating: Military; Technology Family: HC; Output Drive (IOL/IOH)(Max)(mA): 5.2/-5.2; tpd @ Nom Voltage(Max)(ns): 42; DatasheetVersion: SCHS176D; PackageReference: J0016A; Operating Temperature Range(C): -55 to 125; Type: Binary; ComponentLink1Description: Manufacturer URL; ComponentLink1URL: http://www.ti.com/; ComponentLink2Description: Datasheet; ComponentLink2URL: http://www.ti.com/lit/ds/symlink/cd54hc283.pdf; ComponentLink3Description: Package Specification; ComponentLink3URL: http://www.ti.com/lit/ml/mcer002d/mcer002d.pdf
footprint J0016A (DIP, 16-Leads, Body 21.35x7.2mm, Pitch 2.54mm)
pins: 1 S1 (out), 2 B1 (in), 3 A1 (in), 4 S0 (out), 5 A0 (in), 6 B0 (in), 7 CIN (in), 8 GND (power), 9 COUT (out), 10 S3 (out), 11 B3 (in), 12 A3 (in), 13 S2 (out), 14 A2 (in), 15 B2 (in), 16 VCC (power)